# Altium schematic symbol library capacitor_murata_1206$.SchLib: 470 symbols (part 3 of 10)
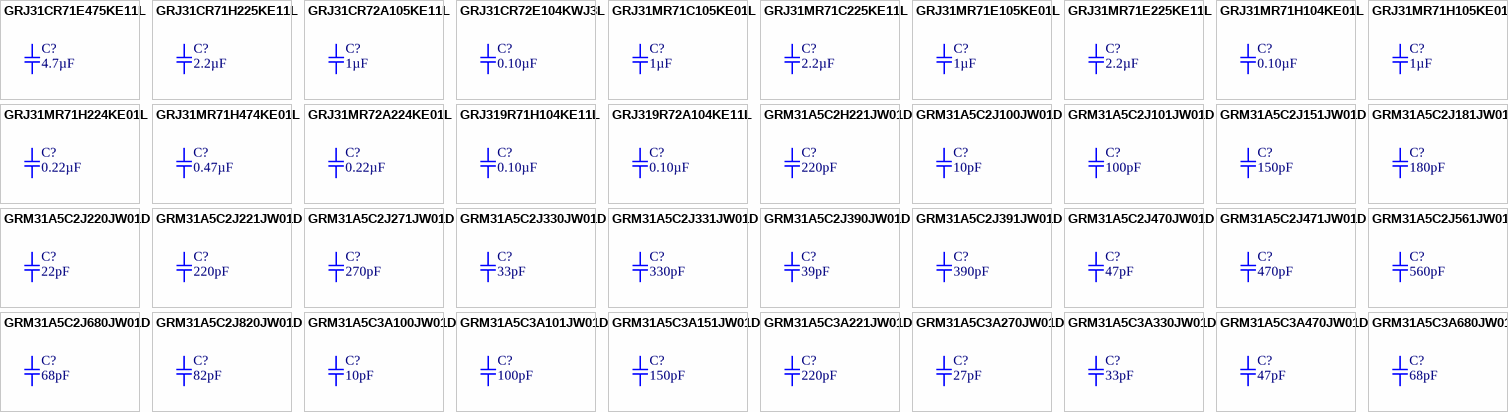
[diagram p13: symbols GRJ31CR71E475KE11L to GRM31A5C3A680JW01D]

## GRM31A5C2J271JW01D
designator C?, comment 270pF
CAP CER 270PF 630V NP0 1206; Part Number: GRM31A5C2J271JW01D; Manufacturer: Murata Electronics North America; Factory Stock: 0; Unit Price (USD): 0.24; Minimum Quantity: 1; Tolerance: ±5%; Temperature Coefficient: C0G, NP0; Datasheets: http://www.murata.com/~/media/webrenewal/support/library/catalog/products/capacitor/mlcc/c02e.pdf; Image: //media.digikey.com/Renders/Murata%20Renders/GR331BD72E473KW01L.jpg; Digi-Key Part Number: 490-11622-1-ND; Quantity Available: 3549; @ qty: 0; Packaging: Cut Tape (CT); Series: GRM; Part Status: Active; Value: 270pF; Voltage: 630V; Operating Temperature: -55°C ~ 125°C; Features: -; Ratings: -; Applications: General Purpose; Mounting Type: Surface Mount, MLCC; Package / Case: 1206 (3216 Metric); Size / Dimension: 0.126" L x 0.063" W (3.20mm x 1.60mm); Height - Seated (Max): -; Thickness (Max): 0.039" (1.00mm); Lead Spacing: -; Lead Style: -
footprint SMD-1206C
pins: 1, 2

## GRM31A5C2J330JW01D
designator C?, comment 33pF
CAP CER 33PF 630V NP0 1206; Part Number: GRM31A5C2J330JW01D; Manufacturer: Murata Electronics North America; Factory Stock: 0; Unit Price (USD): 0.35; Minimum Quantity: 1; Tolerance: ±5%; Temperature Coefficient: C0G, NP0; Datasheets: http://www.murata.com/~/media/webrenewal/support/library/catalog/products/capacitor/mlcc/c02e.pdf; Image: //media.digikey.com/Renders/Murata%20Renders/GR331BD72E473KW01L.jpg; Digi-Key Part Number: 490-11623-1-ND; Quantity Available: 3026; @ qty: 0; Packaging: Cut Tape (CT); Series: GRM; Part Status: Active; Value: 33pF; Voltage: 630V; Operating Temperature: -55°C ~ 125°C; Features: -; Ratings: -; Applications: General Purpose; Mounting Type: Surface Mount, MLCC; Package / Case: 1206 (3216 Metric); Size / Dimension: 0.126" L x 0.063" W (3.20mm x 1.60mm); Height - Seated (Max): -; Thickness (Max): 0.039" (1.00mm); Lead Spacing: -; Lead Style: -
footprint SMD-1206C
pins: 1, 2

## GRM31A5C2J331JW01D
designator C?, comment 330pF
CAP CER 330PF 630V NP0 1206; Part Number: GRM31A5C2J331JW01D; Manufacturer: Murata Electronics North America; Factory Stock: 0; Unit Price (USD): 0.25; Minimum Quantity: 1; Tolerance: ±5%; Temperature Coefficient: C0G, NP0; Datasheets: http://www.murata.com/~/media/webrenewal/support/library/catalog/products/capacitor/mlcc/c02e.pdf; Image: //media.digikey.com/Renders/Murata%20Renders/GR331BD72E473KW01L.jpg; Digi-Key Part Number: 490-5276-1-ND; Quantity Available: 15226; @ qty: 0; Packaging: Cut Tape (CT); Series: GRM; Part Status: Active; Value: 330pF; Voltage: 630V; Operating Temperature: -55°C ~ 125°C; Features: -; Ratings: -; Applications: General Purpose; Mounting Type: Surface Mount, MLCC; Package / Case: 1206 (3216 Metric); Size / Dimension: 0.126" L x 0.063" W (3.20mm x 1.60mm); Height - Seated (Max): -; Thickness (Max): 0.039" (1.00mm); Lead Spacing: -; Lead Style: -
footprint SMD-1206C
pins: 1, 2

## GRM31A5C2J390JW01D
designator C?, comment 39pF
CAP CER 39PF 630V NP0 1206; Part Number: GRM31A5C2J390JW01D; Manufacturer: Murata Electronics North America; Factory Stock: 0; Unit Price (USD): 0.35; Minimum Quantity: 1; Tolerance: ±5%; Temperature Coefficient: C0G, NP0; Datasheets: http://www.murata.com/~/media/webrenewal/support/library/catalog/products/capacitor/mlcc/c02e.pdf; Image: //media.digikey.com/Renders/Murata%20Renders/GR331BD72E473KW01L.jpg; Digi-Key Part Number: 490-11624-1-ND; Quantity Available: 3539; @ qty: 0; Packaging: Cut Tape (CT); Series: GRM; Part Status: Active; Value: 39pF; Voltage: 630V; Operating Temperature: -55°C ~ 125°C; Features: -; Ratings: -; Applications: General Purpose; Mounting Type: Surface Mount, MLCC; Package / Case: 1206 (3216 Metric); Size / Dimension: 0.126" L x 0.063" W (3.20mm x 1.60mm); Height - Seated (Max): -; Thickness (Max): 0.039" (1.00mm); Lead Spacing: -; Lead Style: -
footprint SMD-1206C
pins: 1, 2

## GRM31A5C2J391JW01D
designator C?, comment 390pF
CAP CER 390PF 630V NP0 1206; Part Number: GRM31A5C2J391JW01D; Manufacturer: Murata Electronics North America; Factory Stock: 0; Unit Price (USD): 0.24; Minimum Quantity: 1; Tolerance: ±5%; Temperature Coefficient: C0G, NP0; Datasheets: http://www.murata.com/~/media/webrenewal/support/library/catalog/products/capacitor/mlcc/c02e.pdf; Image: //media.digikey.com/Renders/Murata%20Renders/GR331BD72E473KW01L.jpg; Digi-Key Part Number: 490-11625-1-ND; Quantity Available: 11385; @ qty: 0; Packaging: Cut Tape (CT); Series: GRM; Part Status: Active; Value: 390pF; Voltage: 630V; Operating Temperature: -55°C ~ 125°C; Features: -; Ratings: -; Applications: General Purpose; Mounting Type: Surface Mount, MLCC; Package / Case: 1206 (3216 Metric); Size / Dimension: 0.126" L x 0.063" W (3.20mm x 1.60mm); Height - Seated (Max): -; Thickness (Max): 0.039" (1.00mm); Lead Spacing: -; Lead Style: -
footprint SMD-1206C
pins: 1, 2

## GRM31A5C2J470JW01D
designator C?, comment 47pF
CAP CER 47PF 630V NP0 1206; Part Number: GRM31A5C2J470JW01D; Manufacturer: Murata Electronics North America; Factory Stock: 0; Unit Price (USD): 0.35; Minimum Quantity: 1; Tolerance: ±5%; Temperature Coefficient: C0G, NP0; Datasheets: http://www.murata.com/~/media/webrenewal/support/library/catalog/products/capacitor/mlcc/c02e.pdf; Image: //media.digikey.com/Renders/Murata%20Renders/GR331BD72E473KW01L.jpg; Digi-Key Part Number: 490-12766-1-ND; Quantity Available: 6999; @ qty: 0; Packaging: Cut Tape (CT); Series: GRM; Part Status: Active; Value: 47pF; Voltage: 630V; Operating Temperature: -55°C ~ 125°C; Features: -; Ratings: -; Applications: General Purpose; Mounting Type: Surface Mount, MLCC; Package / Case: 1206 (3216 Metric); Size / Dimension: 0.126" L x 0.063" W (3.20mm x 1.60mm); Height - Seated (Max): -; Thickness (Max): 0.039" (1.00mm); Lead Spacing: -; Lead Style: -
footprint SMD-1206C
pins: 1, 2

## GRM31A5C2J471JW01D
designator C?, comment 470pF
CAP CER 470PF 630V NP0 1206; Part Number: GRM31A5C2J471JW01D; Manufacturer: Murata Electronics North America; Factory Stock: 0; Unit Price (USD): 0.24; Minimum Quantity: 1; Tolerance: ±5%; Temperature Coefficient: C0G, NP0; Datasheets: http://www.murata.com/~/media/webrenewal/support/library/catalog/products/capacitor/mlcc/c02e.pdf; Image: //media.digikey.com/Renders/Murata%20Renders/GR331BD72E473KW01L.jpg; Digi-Key Part Number: 490-5277-1-ND; Quantity Available: 18946; @ qty: 0; Packaging: Cut Tape (CT); Series: GRM; Part Status: Active; Value: 470pF; Voltage: 630V; Operating Temperature: -55°C ~ 125°C; Features: -; Ratings: -; Applications: General Purpose; Mounting Type: Surface Mount, MLCC; Package / Case: 1206 (3216 Metric); Size / Dimension: 0.126" L x 0.063" W (3.20mm x 1.60mm); Height - Seated (Max): -; Thickness (Max): 0.039" (1.00mm); Lead Spacing: -; Lead Style: -
footprint SMD-1206C
pins: 1, 2

## GRM31A5C2J561JW01D
designator C?, comment 560pF
CAP CER 560PF 630V NP0 1206; Part Number: GRM31A5C2J561JW01D; Manufacturer: Murata Electronics North America; Factory Stock: 0; Unit Price (USD): 0.37; Minimum Quantity: 1; Tolerance: ±5%; Temperature Coefficient: C0G, NP0; Datasheets: http://www.murata.com/~/media/webrenewal/support/library/catalog/products/capacitor/mlcc/c02e.pdf; Image: //media.digikey.com/Renders/Murata%20Renders/GR331BD72E473KW01L.jpg; Digi-Key Part Number: 490-13375-1-ND; Quantity Available: 3750; @ qty: 0; Packaging: Cut Tape (CT); Series: GRM; Part Status: Active; Value: 560pF; Voltage: 630V; Operating Temperature: -55°C ~ 125°C; Features: -; Ratings: -; Applications: General Purpose; Mounting Type: Surface Mount, MLCC; Package / Case: 1206 (3216 Metric); Size / Dimension: 0.126" L x 0.063" W (3.20mm x 1.60mm); Height - Seated (Max): -; Thickness (Max): 0.039" (1.00mm); Lead Spacing: -; Lead Style: -
footprint SMD-1206C
pins: 1, 2

## GRM31A5C2J680JW01D
designator C?, comment 68pF
CAP CER 68PF 630V NP0 1206; Part Number: GRM31A5C2J680JW01D; Manufacturer: Murata Electronics North America; Factory Stock: 0; Unit Price (USD): 0.35; Minimum Quantity: 1; Tolerance: ±5%; Temperature Coefficient: C0G, NP0; Datasheets: http://www.murata.com/~/media/webrenewal/support/library/catalog/products/capacitor/mlcc/c02e.pdf; Image: //media.digikey.com/Renders/Murata%20Renders/GR331BD72E473KW01L.jpg; Digi-Key Part Number: 490-11626-1-ND; Quantity Available: 2985; @ qty: 0; Packaging: Cut Tape (CT); Series: GRM; Part Status: Active; Value: 68pF; Voltage: 630V; Operating Temperature: -55°C ~ 125°C; Features: -; Ratings: -; Applications: General Purpose; Mounting Type: Surface Mount, MLCC; Package / Case: 1206 (3216 Metric); Size / Dimension: 0.126" L x 0.063" W (3.20mm x 1.60mm); Height - Seated (Max): -; Thickness (Max): 0.039" (1.00mm); Lead Spacing: -; Lead Style: -
footprint SMD-1206C
pins: 1, 2

## GRM31A5C2J820JW01D
designator C?, comment 82pF
CAP CER 82PF 630V NP0 1206; Part Number: GRM31A5C2J820JW01D; Manufacturer: Murata Electronics North America; Factory Stock: 0; Unit Price (USD): 0.35; Minimum Quantity: 1; Tolerance: ±5%; Temperature Coefficient: C0G, NP0; Datasheets: http://www.murata.com/~/media/webrenewal/support/library/catalog/products/capacitor/mlcc/c02e.pdf; Image: //media.digikey.com/Renders/Murata%20Renders/GR331BD72E473KW01L.jpg; Digi-Key Part Number: 490-11627-1-ND; Quantity Available: 7182; @ qty: 0; Packaging: Cut Tape (CT); Series: GRM; Part Status: Active; Value: 82pF; Voltage: 630V; Operating Temperature: -55°C ~ 125°C; Features: -; Ratings: -; Applications: General Purpose; Mounting Type: Surface Mount, MLCC; Package / Case: 1206 (3216 Metric); Size / Dimension: 0.126" L x 0.063" W (3.20mm x 1.60mm); Height - Seated (Max): -; Thickness (Max): 0.039" (1.00mm); Lead Spacing: -; Lead Style: -
footprint SMD-1206C
pins: 1, 2

## GRM31A5C3A100JW01D
designator C?, comment 10pF
CAP CER 10PF 1KV NP0 1206; Part Number: GRM31A5C3A100JW01D; Manufacturer: Murata Electronics North America; Factory Stock: 0; Unit Price (USD): 0.43; Minimum Quantity: 1; Tolerance: ±5%; Voltage: 1000V (1kV); Temperature Coefficient: C0G, NP0; Datasheets: http://www.murata.com/~/media/webrenewal/support/library/catalog/products/capacitor/mlcc/c02e.pdf; Image: //media.digikey.com/Renders/Murata%20Renders/GR331BD72E473KW01L.jpg; Digi-Key Part Number: 490-12767-1-ND; Quantity Available: 1526; @ qty: 0; Packaging: Cut Tape (CT); Series: GRM; Part Status: Active; Value: 10pF; Operating Temperature: -55°C ~ 125°C; Features: -; Ratings: -; Applications: General Purpose; Mounting Type: Surface Mount, MLCC; Package / Case: 1206 (3216 Metric); Size / Dimension: 0.126" L x 0.063" W (3.20mm x 1.60mm); Height - Seated (Max): -; Thickness (Max): 0.039" (1.00mm); Lead Spacing: -; Lead Style: -
footprint SMD-1206C
pins: 1, 2

## GRM31A5C3A101JW01D
designator C?, comment 100pF
CAP CER 100PF 1KV NP0 1206; Part Number: GRM31A5C3A101JW01D; Manufacturer: Murata Electronics North America; Factory Stock: 0; Unit Price (USD): 0.43; Minimum Quantity: 1; Tolerance: ±5%; Voltage: 1000V (1kV); Temperature Coefficient: C0G, NP0; Datasheets: http://www.murata.com/~/media/webrenewal/support/library/catalog/products/capacitor/mlcc/c02e.pdf; Image: //media.digikey.com/Renders/Murata%20Renders/GR331BD72E473KW01L.jpg; Digi-Key Part Number: 490-12007-1-ND; Quantity Available: 2013; @ qty: 0; Packaging: Cut Tape (CT); Series: GRM; Part Status: Active; Value: 100pF; Operating Temperature: -55°C ~ 125°C; Features: -; Ratings: -; Applications: General Purpose; Mounting Type: Surface Mount, MLCC; Package / Case: 1206 (3216 Metric); Size / Dimension: 0.126" L x 0.063" W (3.20mm x 1.60mm); Height - Seated (Max): -; Thickness (Max): 0.039" (1.00mm); Lead Spacing: -; Lead Style: -
footprint SMD-1206C
pins: 1, 2

## GRM31A5C3A151JW01D
designator C?, comment 150pF
CAP CER 150PF 1KV NP0 1206; Part Number: GRM31A5C3A151JW01D; Manufacturer: Murata Electronics North America; Factory Stock: 0; Unit Price (USD): 0.33; Minimum Quantity: 1; Tolerance: ±5%; Voltage: 1000V (1kV); Temperature Coefficient: C0G, NP0; Datasheets: http://www.murata.com/~/media/webrenewal/support/library/catalog/products/capacitor/mlcc/c02e.pdf; Image: //media.digikey.com/Renders/Murata%20Renders/GR331BD72E473KW01L.jpg; Digi-Key Part Number: 490-13376-1-ND; Quantity Available: 3900; @ qty: 0; Packaging: Cut Tape (CT); Series: GRM; Part Status: Active; Value: 150pF; Operating Temperature: -55°C ~ 125°C; Features: -; Ratings: -; Applications: General Purpose; Mounting Type: Surface Mount, MLCC; Package / Case: 1206 (3216 Metric); Size / Dimension: 0.126" L x 0.063" W (3.20mm x 1.60mm); Height - Seated (Max): -; Thickness (Max): 0.051" (1.30mm); Lead Spacing: -; Lead Style: -
footprint SMD-1206C
pins: 1, 2

## GRM31A5C3A221JW01D
designator C?, comment 220pF
CAP CER 220PF 1KV NP0 1206; Part Number: GRM31A5C3A221JW01D; Manufacturer: Murata Electronics North America; Factory Stock: 0; Unit Price (USD): 0.33; Minimum Quantity: 1; Tolerance: ±5%; Voltage: 1000V (1kV); Temperature Coefficient: C0G, NP0; Datasheets: http://www.murata.com/~/media/webrenewal/support/library/catalog/products/capacitor/mlcc/c02e.pdf; Image: //media.digikey.com/Renders/Murata%20Renders/GR331BD72E473KW01L.jpg; Digi-Key Part Number: 490-13377-1-ND; Quantity Available: 4194; @ qty: 0; Packaging: Cut Tape (CT); Series: GRM; Part Status: Active; Value: 220pF; Operating Temperature: -55°C ~ 125°C; Features: -; Ratings: -; Applications: General Purpose; Mounting Type: Surface Mount, MLCC; Package / Case: 1206 (3216 Metric); Size / Dimension: 0.126" L x 0.063" W (3.20mm x 1.60mm); Height - Seated (Max): -; Thickness (Max): 0.051" (1.30mm); Lead Spacing: -; Lead Style: -
footprint SMD-1206C
pins: 1, 2

## GRM31A5C3A270JW01D
designator C?, comment 27pF
CAP CER 27PF 1KV NP0 1206; Part Number: GRM31A5C3A270JW01D; Manufacturer: Murata Electronics North America; Factory Stock: 0; Unit Price (USD): 0.43; Minimum Quantity: 1; Tolerance: ±5%; Voltage: 1000V (1kV); Temperature Coefficient: C0G, NP0; Datasheets: http://www.murata.com/~/media/webrenewal/support/library/catalog/products/capacitor/mlcc/c02e.pdf; Image: //media.digikey.com/Renders/Murata%20Renders/GR331BD72E473KW01L.jpg; Digi-Key Part Number: 490-11628-1-ND; Quantity Available: 3450; @ qty: 0; Packaging: Cut Tape (CT); Series: GRM; Part Status: Active; Value: 27pF; Operating Temperature: -55°C ~ 125°C; Features: -; Ratings: -; Applications: General Purpose; Mounting Type: Surface Mount, MLCC; Package / Case: 1206 (3216 Metric); Size / Dimension: 0.126" L x 0.063" W (3.20mm x 1.60mm); Height - Seated (Max): -; Thickness (Max): 0.039" (1.00mm); Lead Spacing: -; Lead Style: -
footprint SMD-1206C
pins: 1, 2

## GRM31A5C3A330JW01D
designator C?, comment 33pF
CAP CER 33PF 1KV NP0 1206; Part Number: GRM31A5C3A330JW01D; Manufacturer: Murata Electronics North America; Factory Stock: 0; Unit Price (USD): 0.43; Minimum Quantity: 1; Tolerance: ±5%; Voltage: 1000V (1kV); Temperature Coefficient: C0G, NP0; Datasheets: http://www.murata.com/~/media/webrenewal/support/library/catalog/products/capacitor/mlcc/c02e.pdf; Image: //media.digikey.com/Renders/Murata%20Renders/GR331BD72E473KW01L.jpg; Digi-Key Part Number: 490-11629-1-ND; Quantity Available: 7140; @ qty: 0; Packaging: Cut Tape (CT); Series: GRM; Part Status: Active; Value: 33pF; Operating Temperature: -55°C ~ 125°C; Features: -; Ratings: -; Applications: General Purpose; Mounting Type: Surface Mount, MLCC; Package / Case: 1206 (3216 Metric); Size / Dimension: 0.126" L x 0.063" W (3.20mm x 1.60mm); Height - Seated (Max): -; Thickness (Max): 0.039" (1.00mm); Lead Spacing: -; Lead Style: -
footprint SMD-1206C
pins: 1, 2

## GRM31A5C3A470JW01D
designator C?, comment 47pF
CAP CER 47PF 1KV NP0 1206; Part Number: GRM31A5C3A470JW01D; Manufacturer: Murata Electronics North America; Factory Stock: 0; Unit Price (USD): 0.43; Minimum Quantity: 1; Tolerance: ±5%; Voltage: 1000V (1kV); Temperature Coefficient: C0G, NP0; Datasheets: http://www.murata.com/~/media/webrenewal/support/library/catalog/products/capacitor/mlcc/c02e.pdf; Image: //media.digikey.com/Renders/Murata%20Renders/GR331BD72E473KW01L.jpg; Digi-Key Part Number: 490-11630-1-ND; Quantity Available: 2625; @ qty: 0; Packaging: Cut Tape (CT); Series: GRM; Part Status: Active; Value: 47pF; Operating Temperature: -55°C ~ 125°C; Features: -; Ratings: -; Applications: General Purpose; Mounting Type: Surface Mount, MLCC; Package / Case: 1206 (3216 Metric); Size / Dimension: 0.126" L x 0.063" W (3.20mm x 1.60mm); Height - Seated (Max): -; Thickness (Max): 0.039" (1.00mm); Lead Spacing: -; Lead Style: -
footprint SMD-1206C
pins: 1, 2

## GRM31A5C3A680JW01D
designator C?, comment 68pF
CAP CER 68PF 1KV NP0 1206; Part Number: GRM31A5C3A680JW01D; Manufacturer: Murata Electronics North America; Factory Stock: 0; Unit Price (USD): 0.43; Minimum Quantity: 1; Tolerance: ±5%; Voltage: 1000V (1kV); Temperature Coefficient: C0G, NP0; Datasheets: http://www.murata.com/~/media/webrenewal/support/library/catalog/products/capacitor/mlcc/c02e.pdf; Image: //media.digikey.com/Renders/Murata%20Renders/GR331BD72E473KW01L.jpg; Digi-Key Part Number: 490-12768-1-ND; Quantity Available: 3373; @ qty: 0; Packaging: Cut Tape (CT); Series: GRM; Part Status: Active; Value: 68pF; Operating Temperature: -55°C ~ 125°C; Features: -; Ratings: -; Applications: General Purpose; Mounting Type: Surface Mount, MLCC; Package / Case: 1206 (3216 Metric); Size / Dimension: 0.126" L x 0.063" W (3.20mm x 1.60mm); Height - Seated (Max): -; Thickness (Max): 0.039" (1.00mm); Lead Spacing: -; Lead Style: -
footprint SMD-1206C
pins: 1, 2

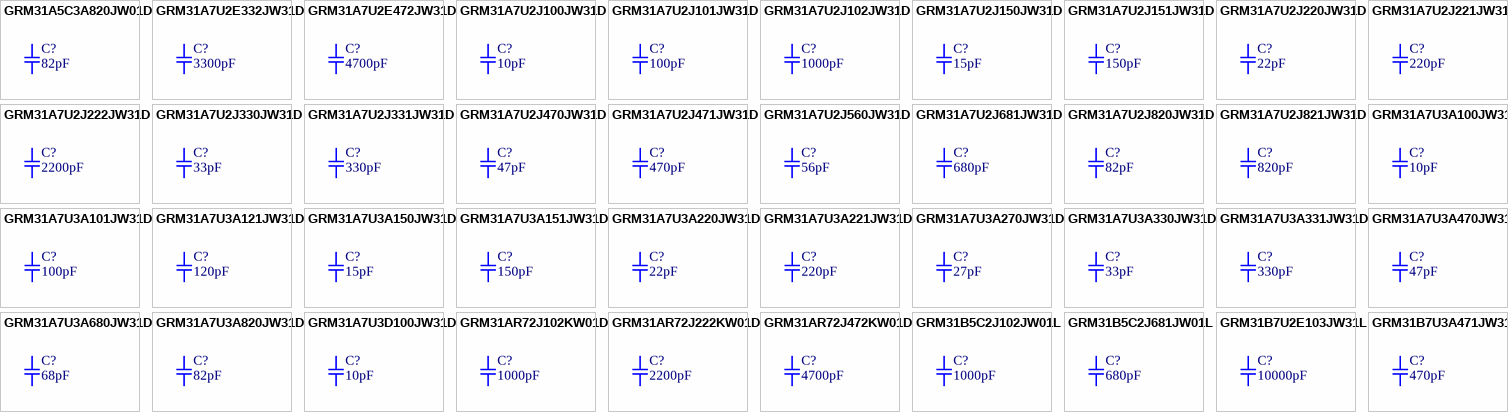
[diagram p3: symbols GRM31A5C3A820JW01D to GRM31B7U3A471JW31L]

## GRM31A5C3A820JW01D
designator C?, comment 82pF
CAP CER 82PF 1KV NP0 1206; Part Number: GRM31A5C3A820JW01D; Manufacturer: Murata Electronics North America; Factory Stock: 0; Unit Price (USD): 0.43; Minimum Quantity: 1; Tolerance: ±5%; Voltage: 1000V (1kV); Temperature Coefficient: C0G, NP0; Datasheets: http://www.murata.com/~/media/webrenewal/support/library/catalog/products/capacitor/mlcc/c02e.pdf; Image: //media.digikey.com/Renders/Murata%20Renders/GR331BD72E473KW01L.jpg; Digi-Key Part Number: 490-11631-1-ND; Quantity Available: 5195; @ qty: 0; Packaging: Cut Tape (CT); Series: GRM; Part Status: Active; Value: 82pF; Operating Temperature: -55°C ~ 125°C; Features: -; Ratings: -; Applications: General Purpose; Mounting Type: Surface Mount, MLCC; Package / Case: 1206 (3216 Metric); Size / Dimension: 0.126" L x 0.063" W (3.20mm x 1.60mm); Height - Seated (Max): -; Thickness (Max): 0.039" (1.00mm); Lead Spacing: -; Lead Style: -
footprint SMD-1206C
pins: 1, 2

## GRM31A7U2E332JW31D
designator C?, comment 3300pF
CAP CER 3300PF 250V U2J 1206; Part Number: GRM31A7U2E332JW31D; Manufacturer: Murata Electronics North America; Factory Stock: 0; Unit Price (USD): 0.35; Minimum Quantity: 1; Tolerance: ±5%; Datasheets: http://www.murata.com/~/media/webrenewal/support/library/catalog/products/capacitor/mlcc/c02e.pdf; Image: //media.digikey.com/Renders/Murata%20Renders/GR331BD72E473KW01L.jpg; Digi-Key Part Number: 490-11632-1-ND; Quantity Available: 2546; @ qty: 0; Packaging: Cut Tape (CT); Series: GRM; Part Status: Active; Value: 3300pF; Voltage: 250V; Temperature Coefficient: U2J; Operating Temperature: -55°C ~ 125°C; Features: -; Ratings: -; Applications: General Purpose; Mounting Type: Surface Mount, MLCC; Package / Case: 1206 (3216 Metric); Size / Dimension: 0.126" L x 0.063" W (3.20mm x 1.60mm); Height - Seated (Max): -; Thickness (Max): 0.039" (1.00mm); Lead Spacing: -; Lead Style: -
footprint SMD-1206C
pins: 1, 2

## GRM31A7U2E472JW31D
designator C?, comment 4700pF
CAP CER 4700PF 250V U2J 1206; Part Number: GRM31A7U2E472JW31D; Manufacturer: Murata Electronics North America; Factory Stock: 0; Unit Price (USD): 0.35; Minimum Quantity: 1; Tolerance: ±5%; Datasheets: http://www.murata.com/~/media/webrenewal/support/library/catalog/products/capacitor/mlcc/c02e.pdf; Image: //media.digikey.com/Renders/Murata%20Renders/GR331BD72E473KW01L.jpg; Digi-Key Part Number: 490-12008-1-ND; Quantity Available: 4400; @ qty: 0; Packaging: Cut Tape (CT); Series: GRM; Part Status: Active; Value: 4700pF; Voltage: 250V; Temperature Coefficient: U2J; Operating Temperature: -55°C ~ 125°C; Features: -; Ratings: -; Applications: General Purpose; Mounting Type: Surface Mount, MLCC; Package / Case: 1206 (3216 Metric); Size / Dimension: 0.126" L x 0.063" W (3.20mm x 1.60mm); Height - Seated (Max): -; Thickness (Max): 0.039" (1.00mm); Lead Spacing: -; Lead Style: -
footprint SMD-1206C
pins: 1, 2

## GRM31A7U2J100JW31D
designator C?, comment 10pF
CAP CER 10PF 630V U2J 1206; Part Number: GRM31A7U2J100JW31D; Manufacturer: Murata Electronics North America; Factory Stock: 0; Unit Price (USD): 0.37; Minimum Quantity: 1; Tolerance: ±5%; Datasheets: http://www.murata.com/~/media/webrenewal/support/library/catalog/products/capacitor/mlcc/c02e.pdf; Image: //media.digikey.com/Renders/Murata%20Renders/GR331BD72E473KW01L.jpg; Digi-Key Part Number: 490-6495-1-ND; Quantity Available: 5199; @ qty: 0; Packaging: Cut Tape (CT); Series: GRM; Part Status: Active; Value: 10pF; Voltage: 630V; Temperature Coefficient: U2J; Operating Temperature: -55°C ~ 125°C; Features: -; Ratings: -; Applications: General Purpose; Mounting Type: Surface Mount, MLCC; Package / Case: 1206 (3216 Metric); Size / Dimension: 0.126" L x 0.063" W (3.20mm x 1.60mm); Height - Seated (Max): -; Thickness (Max): 0.039" (1.00mm); Lead Spacing: -; Lead Style: -
footprint SMD-1206C
pins: 1, 2

## GRM31A7U2J101JW31D
designator C?, comment 100pF
CAP CER 100PF 630V U2J 1206; Part Number: GRM31A7U2J101JW31D; Manufacturer: Murata Electronics North America; Factory Stock: 0; Unit Price (USD): 0.27; Minimum Quantity: 1; Tolerance: ±5%; Datasheets: http://www.murata.com/~/media/webrenewal/support/library/catalog/products/capacitor/mlcc/c02e.pdf; Image: //media.digikey.com/Renders/Murata%20Renders/GR331BD72E473KW01L.jpg; Digi-Key Part Number: 490-4290-1-ND; Quantity Available: 16060; @ qty: 0; Packaging: Cut Tape (CT); Series: GRM; Part Status: Active; Value: 100pF; Voltage: 630V; Temperature Coefficient: U2J; Operating Temperature: -55°C ~ 125°C; Features: -; Ratings: -; Applications: General Purpose; Mounting Type: Surface Mount, MLCC; Package / Case: 1206 (3216 Metric); Size / Dimension: 0.126" L x 0.063" W (3.20mm x 1.60mm); Height - Seated (Max): -; Thickness (Max): 0.039" (1.00mm); Lead Spacing: -; Lead Style: -
footprint SMD-1206C
pins: 1, 2

## GRM31A7U2J102JW31D
designator C?, comment 1000pF
CAP CER 1000PF 630V U2J 1206; Part Number: GRM31A7U2J102JW31D; Manufacturer: Murata Electronics North America; Factory Stock: 0; Unit Price (USD): 0.27; Minimum Quantity: 1; Tolerance: ±5%; Datasheets: http://www.murata.com/~/media/webrenewal/support/library/catalog/products/capacitor/mlcc/c02e.pdf; Image: //media.digikey.com/Renders/Murata%20Renders/GR331BD72E473KW01L.jpg; Digi-Key Part Number: 490-4296-1-ND; Quantity Available: 6686; @ qty: 0; Packaging: Cut Tape (CT); Series: GRM; Part Status: Active; Value: 1000pF; Voltage: 630V; Temperature Coefficient: U2J; Operating Temperature: -55°C ~ 125°C; Features: -; Ratings: -; Applications: General Purpose; Mounting Type: Surface Mount, MLCC; Package / Case: 1206 (3216 Metric); Size / Dimension: 0.126" L x 0.063" W (3.20mm x 1.60mm); Height - Seated (Max): -; Thickness (Max): 0.039" (1.00mm); Lead Spacing: -; Lead Style: -
footprint SMD-1206C
pins: 1, 2

## GRM31A7U2J150JW31D
designator C?, comment 15pF
CAP CER 15PF 630V U2J 1206; Part Number: GRM31A7U2J150JW31D; Manufacturer: Murata Electronics North America; Factory Stock: 0; Unit Price (USD): 0.37; Minimum Quantity: 1; Tolerance: ±5%; Datasheets: http://www.murata.com/~/media/webrenewal/support/library/catalog/products/capacitor/mlcc/c02e.pdf; Image: //media.digikey.com/Renders/Murata%20Renders/GR331BD72E473KW01L.jpg; Digi-Key Part Number: 490-12769-1-ND; Quantity Available: 1947; @ qty: 0; Packaging: Cut Tape (CT); Series: GRM; Part Status: Active; Value: 15pF; Voltage: 630V; Temperature Coefficient: U2J; Operating Temperature: -55°C ~ 125°C; Features: -; Ratings: -; Applications: General Purpose; Mounting Type: Surface Mount, MLCC; Package / Case: 1206 (3216 Metric); Size / Dimension: 0.126" L x 0.063" W (3.20mm x 1.60mm); Height - Seated (Max): -; Thickness (Max): 0.039" (1.00mm); Lead Spacing: -; Lead Style: -
footprint SMD-1206C
pins: 1, 2

## GRM31A7U2J151JW31D
designator C?, comment 150pF
CAP CER 150PF 630V U2J 1206; Part Number: GRM31A7U2J151JW31D; Manufacturer: Murata Electronics North America; Factory Stock: 0; Unit Price (USD): 0.38; Minimum Quantity: 1; Tolerance: ±5%; Datasheets: http://www.murata.com/~/media/webrenewal/support/library/catalog/products/capacitor/mlcc/c02e.pdf; Image: //media.digikey.com/Renders/Murata%20Renders/GR331BD72E473KW01L.jpg; Digi-Key Part Number: 490-4291-1-ND; Quantity Available: 9451; @ qty: 0; Packaging: Cut Tape (CT); Series: GRM; Part Status: Active; Value: 150pF; Voltage: 630V; Temperature Coefficient: U2J; Operating Temperature: -55°C ~ 125°C; Features: -; Ratings: -; Applications: General Purpose; Mounting Type: Surface Mount, MLCC; Package / Case: 1206 (3216 Metric); Size / Dimension: 0.126" L x 0.063" W (3.20mm x 1.60mm); Height - Seated (Max): -; Thickness (Max): 0.039" (1.00mm); Lead Spacing: -; Lead Style: -
footprint SMD-1206C
pins: 1, 2

## GRM31A7U2J220JW31D
designator C?, comment 22pF
CAP CER 22PF 630V U2J 1206; Part Number: GRM31A7U2J220JW31D; Manufacturer: Murata Electronics North America; Factory Stock: 0; Unit Price (USD): 0.37; Minimum Quantity: 1; Tolerance: ±5%; Datasheets: http://www.murata.com/~/media/webrenewal/support/library/catalog/products/capacitor/mlcc/c02e.pdf; Image: //media.digikey.com/Renders/Murata%20Renders/GR331BD72E473KW01L.jpg; Digi-Key Part Number: 490-6496-1-ND; Quantity Available: 11399; @ qty: 0; Packaging: Cut Tape (CT); Series: GRM; Part Status: Active; Value: 22pF; Voltage: 630V; Temperature Coefficient: U2J; Operating Temperature: -55°C ~ 125°C; Features: -; Ratings: -; Applications: General Purpose; Mounting Type: Surface Mount, MLCC; Package / Case: 1206 (3216 Metric); Size / Dimension: 0.126" L x 0.063" W (3.20mm x 1.60mm); Height - Seated (Max): -; Thickness (Max): 0.039" (1.00mm); Lead Spacing: -; Lead Style: -
footprint SMD-1206C
pins: 1, 2

## GRM31A7U2J221JW31D
designator C?, comment 220pF
CAP CER 220PF 630V U2J 1206; Part Number: GRM31A7U2J221JW31D; Manufacturer: Murata Electronics North America; Factory Stock: 0; Unit Price (USD): 0.34; Minimum Quantity: 1; Tolerance: ±5%; Datasheets: http://www.murata.com/~/media/webrenewal/support/library/catalog/products/capacitor/mlcc/c02e.pdf; Image: //media.digikey.com/Renders/Murata%20Renders/GR331BD72E473KW01L.jpg; Digi-Key Part Number: 490-4292-1-ND; Quantity Available: 15375; @ qty: 0; Packaging: Cut Tape (CT); Series: GRM; Part Status: Active; Value: 220pF; Voltage: 630V; Temperature Coefficient: U2J; Operating Temperature: -55°C ~ 125°C; Features: -; Ratings: -; Applications: General Purpose; Mounting Type: Surface Mount, MLCC; Package / Case: 1206 (3216 Metric); Size / Dimension: 0.126" L x 0.063" W (3.20mm x 1.60mm); Height - Seated (Max): -; Thickness (Max): 0.039" (1.00mm); Lead Spacing: -; Lead Style: -
footprint SMD-1206C
pins: 1, 2

## GRM31A7U2J222JW31D
designator C?, comment 2200pF
CAP CER 2200PF 630V U2J 1206; Part Number: GRM31A7U2J222JW31D; Manufacturer: Murata Electronics North America; Factory Stock: 0; Unit Price (USD): 0.34; Minimum Quantity: 1; Tolerance: ±5%; Datasheets: http://www.murata.com/~/media/webrenewal/support/library/catalog/products/capacitor/mlcc/c02e.pdf; Image: //media.digikey.com/Renders/Murata%20Renders/GR331BD72E473KW01L.jpg; Digi-Key Part Number: 490-12009-1-ND; Quantity Available: 2553; @ qty: 0; Packaging: Cut Tape (CT); Series: GRM; Part Status: Active; Value: 2200pF; Voltage: 630V; Temperature Coefficient: U2J; Operating Temperature: -55°C ~ 125°C; Features: -; Ratings: -; Applications: General Purpose; Mounting Type: Surface Mount, MLCC; Package / Case: 1206 (3216 Metric); Size / Dimension: 0.126" L x 0.063" W (3.20mm x 1.60mm); Height - Seated (Max): -; Thickness (Max): 0.039" (1.00mm); Lead Spacing: -; Lead Style: -
footprint SMD-1206C
pins: 1, 2

## GRM31A7U2J330JW31D
designator C?, comment 33pF
CAP CER 33PF 630V U2J 1206; Part Number: GRM31A7U2J330JW31D; Manufacturer: Murata Electronics North America; Factory Stock: 0; Unit Price (USD): 0.32; Minimum Quantity: 1; Tolerance: ±5%; Datasheets: http://www.murata.com/~/media/webrenewal/support/library/catalog/products/capacitor/mlcc/c02e.pdf; Image: //media.digikey.com/Renders/Murata%20Renders/GR331BD72E473KW01L.jpg; Digi-Key Part Number: 490-8329-1-ND; Quantity Available: 5814; @ qty: 0; Packaging: Cut Tape (CT); Series: GRM; Part Status: Active; Value: 33pF; Voltage: 630V; Temperature Coefficient: U2J; Operating Temperature: -55°C ~ 125°C; Features: -; Ratings: -; Applications: General Purpose; Mounting Type: Surface Mount, MLCC; Package / Case: 1206 (3216 Metric); Size / Dimension: 0.126" L x 0.063" W (3.20mm x 1.60mm); Height - Seated (Max): -; Thickness (Max): 0.039" (1.00mm); Lead Spacing: -; Lead Style: -
footprint SMD-1206C
pins: 1, 2

## GRM31A7U2J331JW31D
designator C?, comment 330pF
CAP CER 330PF 630V U2J 1206; Part Number: GRM31A7U2J331JW31D; Manufacturer: Murata Electronics North America; Factory Stock: 0; Unit Price (USD): 0.38; Minimum Quantity: 1; Tolerance: ±5%; Datasheets: http://www.murata.com/~/media/webrenewal/support/library/catalog/products/capacitor/mlcc/c02e.pdf; Image: //media.digikey.com/Renders/Murata%20Renders/GR331BD72E473KW01L.jpg; Digi-Key Part Number: 490-4293-1-ND; Quantity Available: 2488; @ qty: 0; Packaging: Cut Tape (CT); Series: GRM; Part Status: Active; Value: 330pF; Voltage: 630V; Temperature Coefficient: U2J; Operating Temperature: -55°C ~ 125°C; Features: -; Ratings: -; Applications: General Purpose; Mounting Type: Surface Mount, MLCC; Package / Case: 1206 (3216 Metric); Size / Dimension: 0.126" L x 0.063" W (3.20mm x 1.60mm); Height - Seated (Max): -; Thickness (Max): 0.039" (1.00mm); Lead Spacing: -; Lead Style: -
footprint SMD-1206C
pins: 1, 2

## GRM31A7U2J470JW31D
designator C?, comment 47pF
CAP CER 47PF 630V U2J 1206; Part Number: GRM31A7U2J470JW31D; Manufacturer: Murata Electronics North America; Factory Stock: 0; Unit Price (USD): 0.37; Minimum Quantity: 1; Tolerance: ±5%; Datasheets: http://www.murata.com/~/media/webrenewal/support/library/catalog/products/capacitor/mlcc/c02e.pdf; Image: //media.digikey.com/Renders/Murata%20Renders/GR331BD72E473KW01L.jpg; Digi-Key Part Number: 490-6497-1-ND; Quantity Available: 7905; @ qty: 0; Packaging: Cut Tape (CT); Series: GRM; Part Status: Active; Value: 47pF; Voltage: 630V; Temperature Coefficient: U2J; Operating Temperature: -55°C ~ 125°C; Features: -; Ratings: -; Applications: General Purpose; Mounting Type: Surface Mount, MLCC; Package / Case: 1206 (3216 Metric); Size / Dimension: 0.126" L x 0.063" W (3.20mm x 1.60mm); Height - Seated (Max): -; Thickness (Max): 0.039" (1.00mm); Lead Spacing: -; Lead Style: -
footprint SMD-1206C
pins: 1, 2

## GRM31A7U2J471JW31D
designator C?, comment 470pF
CAP CER 470PF 630V U2J 1206; Part Number: GRM31A7U2J471JW31D; Manufacturer: Murata Electronics North America; Factory Stock: 0; Unit Price (USD): 0.38; Minimum Quantity: 1; Tolerance: ±5%; Datasheets: http://www.murata.com/~/media/webrenewal/support/library/catalog/products/capacitor/mlcc/c02e.pdf; Image: //media.digikey.com/Renders/Murata%20Renders/GR331BD72E473KW01L.jpg; Digi-Key Part Number: 490-4294-1-ND; Quantity Available: 3988; @ qty: 0; Packaging: Cut Tape (CT); Series: GRM; Part Status: Active; Value: 470pF; Voltage: 630V; Temperature Coefficient: U2J; Operating Temperature: -55°C ~ 125°C; Features: -; Ratings: -; Applications: General Purpose; Mounting Type: Surface Mount, MLCC; Package / Case: 1206 (3216 Metric); Size / Dimension: 0.126" L x 0.063" W (3.20mm x 1.60mm); Height - Seated (Max): -; Thickness (Max): 0.039" (1.00mm); Lead Spacing: -; Lead Style: -
footprint SMD-1206C
pins: 1, 2

## GRM31A7U2J560JW31D
designator C?, comment 56pF
CAP CER 56PF 630V U2J 1206; Part Number: GRM31A7U2J560JW31D; Manufacturer: Murata Electronics North America; Factory Stock: 0; Unit Price (USD): 0.37; Minimum Quantity: 1; Tolerance: ±5%; Datasheets: http://www.murata.com/~/media/webrenewal/support/library/catalog/products/capacitor/mlcc/c02e.pdf; Image: //media.digikey.com/Renders/Murata%20Renders/GR331BD72E473KW01L.jpg; Digi-Key Part Number: 490-11633-1-ND; Quantity Available: 3386; @ qty: 0; Packaging: Cut Tape (CT); Series: GRM; Part Status: Active; Value: 56pF; Voltage: 630V; Temperature Coefficient: U2J; Operating Temperature: -55°C ~ 125°C; Features: -; Ratings: -; Applications: General Purpose; Mounting Type: Surface Mount, MLCC; Package / Case: 1206 (3216 Metric); Size / Dimension: 0.126" L x 0.063" W (3.20mm x 1.60mm); Height - Seated (Max): -; Thickness (Max): 0.039" (1.00mm); Lead Spacing: -; Lead Style: -
footprint SMD-1206C
pins: 1, 2

## GRM31A7U2J681JW31D
designator C?, comment 680pF
CAP CER 680PF 630V U2J 1206; Part Number: GRM31A7U2J681JW31D; Manufacturer: Murata Electronics North America; Factory Stock: 0; Unit Price (USD): 0.33; Minimum Quantity: 1; Tolerance: ±5%; Datasheets: http://www.murata.com/~/media/webrenewal/support/library/catalog/products/capacitor/mlcc/c02e.pdf; Image: //media.digikey.com/Renders/Murata%20Renders/GR331BD72E473KW01L.jpg; Digi-Key Part Number: 490-4295-1-ND; Quantity Available: 7982; @ qty: 0; Packaging: Cut Tape (CT); Series: GRM; Part Status: Active; Value: 680pF; Voltage: 630V; Temperature Coefficient: U2J; Operating Temperature: -55°C ~ 125°C; Features: -; Ratings: -; Applications: General Purpose; Mounting Type: Surface Mount, MLCC; Package / Case: 1206 (3216 Metric); Size / Dimension: 0.126" L x 0.063" W (3.20mm x 1.60mm); Height - Seated (Max): -; Thickness (Max): 0.039" (1.00mm); Lead Spacing: -; Lead Style: -
footprint SMD-1206C
pins: 1, 2

## GRM31A7U2J820JW31D
designator C?, comment 82pF
CAP CER 82PF 630V U2J 1206; Part Number: GRM31A7U2J820JW31D; Manufacturer: Murata Electronics North America; Factory Stock: 0; Unit Price (USD): 0.37; Minimum Quantity: 1; Tolerance: ±5%; Datasheets: http://www.murata.com/~/media/webrenewal/support/library/catalog/products/capacitor/mlcc/c02e.pdf; Image: //media.digikey.com/Renders/Murata%20Renders/GR331BD72E473KW01L.jpg; Digi-Key Part Number: 490-6498-1-ND; Quantity Available: 10401; @ qty: 0; Packaging: Cut Tape (CT); Series: GRM; Part Status: Active; Value: 82pF; Voltage: 630V; Temperature Coefficient: U2J; Operating Temperature: -55°C ~ 125°C; Features: -; Ratings: -; Applications: General Purpose; Mounting Type: Surface Mount, MLCC; Package / Case: 1206 (3216 Metric); Size / Dimension: 0.126" L x 0.063" W (3.20mm x 1.60mm); Height - Seated (Max): -; Thickness (Max): 0.039" (1.00mm); Lead Spacing: -; Lead Style: -
footprint SMD-1206C
pins: 1, 2

## GRM31A7U2J821JW31D
designator C?, comment 820pF
CAP CER 820PF 630V U2J 1206; Part Number: GRM31A7U2J821JW31D; Manufacturer: Murata Electronics North America; Factory Stock: 0; Unit Price (USD): 0.33; Minimum Quantity: 1; Tolerance: ±5%; Datasheets: http://www.murata.com/~/media/webrenewal/support/library/catalog/products/capacitor/mlcc/c02e.pdf; Image: //media.digikey.com/Renders/Murata%20Renders/GR331BD72E473KW01L.jpg; Digi-Key Part Number: 490-12770-1-ND; Quantity Available: 3740; @ qty: 0; Packaging: Cut Tape (CT); Series: GRM; Part Status: Active; Value: 820pF; Voltage: 630V; Temperature Coefficient: U2J; Operating Temperature: -55°C ~ 125°C; Features: -; Ratings: -; Applications: General Purpose; Mounting Type: Surface Mount, MLCC; Package / Case: 1206 (3216 Metric); Size / Dimension: 0.126" L x 0.063" W (3.20mm x 1.60mm); Height - Seated (Max): -; Thickness (Max): 0.039" (1.00mm); Lead Spacing: -; Lead Style: -
footprint SMD-1206C
pins: 1, 2

## GRM31A7U3A100JW31D
designator C?, comment 10pF
CAP CER 10PF 1KV U2J 1206; Part Number: GRM31A7U3A100JW31D; Manufacturer: Murata Electronics North America; Factory Stock: 0; Unit Price (USD): 0.39; Minimum Quantity: 1; Tolerance: ±5%; Voltage: 1000V (1kV); Datasheets: http://www.murata.com/~/media/webrenewal/support/library/catalog/products/capacitor/mlcc/c02e.pdf; Image: //media.digikey.com/Renders/Murata%20Renders/GR331BD72E473KW01L.jpg; Digi-Key Part Number: 490-8330-1-ND; Quantity Available: 5135; @ qty: 0; Packaging: Cut Tape (CT); Series: GRM; Part Status: Active; Value: 10pF; Temperature Coefficient: U2J; Operating Temperature: -55°C ~ 125°C; Features: -; Ratings: -; Applications: General Purpose; Mounting Type: Surface Mount, MLCC; Package / Case: 1206 (3216 Metric); Size / Dimension: 0.126" L x 0.063" W (3.20mm x 1.60mm); Height - Seated (Max): -; Thickness (Max): 0.039" (1.00mm); Lead Spacing: -; Lead Style: -
footprint SMD-1206C
pins: 1, 2

## GRM31A7U3A101JW31D
designator C?, comment 100pF
CAP CER 100PF 1KV U2J 1206; Part Number: GRM31A7U3A101JW31D; Manufacturer: Murata Electronics North America; Factory Stock: 0; Unit Price (USD): 0.39; Minimum Quantity: 1; Tolerance: ±5%; Voltage: 1000V (1kV); Datasheets: http://www.murata.com/~/media/webrenewal/support/library/catalog/products/capacitor/mlcc/c02e.pdf; Image: //media.digikey.com/Renders/Murata%20Renders/GR331BD72E473KW01L.jpg; Digi-Key Part Number: 490-4301-1-ND; Quantity Available: 151933; @ qty: 0; Packaging: Cut Tape (CT); Series: GRM; Part Status: Active; Value: 100pF; Temperature Coefficient: U2J; Operating Temperature: -55°C ~ 125°C; Features: -; Ratings: -; Applications: General Purpose; Mounting Type: Surface Mount, MLCC; Package / Case: 1206 (3216 Metric); Size / Dimension: 0.126" L x 0.063" W (3.20mm x 1.60mm); Height - Seated (Max): -; Thickness (Max): 0.039" (1.00mm); Lead Spacing: -; Lead Style: -
footprint SMD-1206C
pins: 1, 2

## GRM31A7U3A121JW31D
designator C?, comment 120pF
CAP CER 120PF 1KV U2J 1206; Part Number: GRM31A7U3A121JW31D; Manufacturer: Murata Electronics North America; Factory Stock: 0; Unit Price (USD): 0.42; Minimum Quantity: 1; Tolerance: ±5%; Voltage: 1000V (1kV); Datasheets: http://www.murata.com/~/media/webrenewal/support/library/catalog/products/capacitor/mlcc/c02e.pdf; Image: //media.digikey.com/Renders/Murata%20Renders/GR331BD72E473KW01L.jpg; Digi-Key Part Number: 490-8331-1-ND; Quantity Available: 4711; @ qty: 0; Packaging: Cut Tape (CT); Series: GRM; Part Status: Active; Value: 120pF; Temperature Coefficient: U2J; Operating Temperature: -55°C ~ 125°C; Features: -; Ratings: -; Applications: General Purpose; Mounting Type: Surface Mount, MLCC; Package / Case: 1206 (3216 Metric); Size / Dimension: 0.126" L x 0.063" W (3.20mm x 1.60mm); Height - Seated (Max): -; Thickness (Max): 0.039" (1.00mm); Lead Spacing: -; Lead Style: -
footprint SMD-1206C
pins: 1, 2

## GRM31A7U3A150JW31D
designator C?, comment 15pF
CAP CER 15PF 1KV U2J 1206; Part Number: GRM31A7U3A150JW31D; Manufacturer: Murata Electronics North America; Factory Stock: 0; Unit Price (USD): 0.39; Minimum Quantity: 1; Tolerance: ±5%; Voltage: 1000V (1kV); Datasheets: http://www.murata.com/~/media/webrenewal/support/library/catalog/products/capacitor/mlcc/c02e.pdf; Image: //media.digikey.com/Renders/Murata%20Renders/GR331BD72E473KW01L.jpg; Digi-Key Part Number: 490-6499-1-ND; Quantity Available: 8496; @ qty: 0; Packaging: Cut Tape (CT); Series: GRM; Part Status: Active; Value: 15pF; Temperature Coefficient: U2J; Operating Temperature: -55°C ~ 125°C; Features: -; Ratings: -; Applications: General Purpose; Mounting Type: Surface Mount, MLCC; Package / Case: 1206 (3216 Metric); Size / Dimension: 0.126" L x 0.063" W (3.20mm x 1.60mm); Height - Seated (Max): -; Thickness (Max): 0.039" (1.00mm); Lead Spacing: -; Lead Style: -
footprint SMD-1206C
pins: 1, 2

## GRM31A7U3A151JW31D
designator C?, comment 150pF
CAP CER 150PF 1KV U2J 1206; Part Number: GRM31A7U3A151JW31D; Manufacturer: Murata Electronics North America; Factory Stock: 0; Unit Price (USD): 0.42; Minimum Quantity: 1; Tolerance: ±5%; Voltage: 1000V (1kV); Datasheets: http://www.murata.com/~/media/webrenewal/support/library/catalog/products/capacitor/mlcc/c02e.pdf; Image: //media.digikey.com/Renders/Murata%20Renders/GR331BD72E473KW01L.jpg; Digi-Key Part Number: 490-4302-1-ND; Quantity Available: 12055; @ qty: 0; Packaging: Cut Tape (CT); Series: GRM; Part Status: Active; Value: 150pF; Temperature Coefficient: U2J; Operating Temperature: -55°C ~ 125°C; Features: -; Ratings: -; Applications: General Purpose; Mounting Type: Surface Mount, MLCC; Package / Case: 1206 (3216 Metric); Size / Dimension: 0.126" L x 0.063" W (3.20mm x 1.60mm); Height - Seated (Max): -; Thickness (Max): 0.039" (1.00mm); Lead Spacing: -; Lead Style: -
footprint SMD-1206C
pins: 1, 2

## GRM31A7U3A220JW31D
designator C?, comment 22pF
CAP CER 22PF 1KV U2J 1206; Part Number: GRM31A7U3A220JW31D; Manufacturer: Murata Electronics North America; Factory Stock: 0; Unit Price (USD): 0.39; Minimum Quantity: 1; Tolerance: ±5%; Voltage: 1000V (1kV); Datasheets: http://www.murata.com/~/media/webrenewal/support/library/catalog/products/capacitor/mlcc/c02e.pdf; Image: //media.digikey.com/Renders/Murata%20Renders/GR331BD72E473KW01L.jpg; Digi-Key Part Number: 490-11634-1-ND; Quantity Available: 3530; @ qty: 0; Packaging: Cut Tape (CT); Series: GRM; Part Status: Active; Value: 22pF; Temperature Coefficient: U2J; Operating Temperature: -55°C ~ 125°C; Features: -; Ratings: -; Applications: General Purpose; Mounting Type: Surface Mount, MLCC; Package / Case: 1206 (3216 Metric); Size / Dimension: 0.126" L x 0.063" W (3.20mm x 1.60mm); Height - Seated (Max): -; Thickness (Max): 0.039" (1.00mm); Lead Spacing: -; Lead Style: -
footprint SMD-1206C
pins: 1, 2

## GRM31A7U3A221JW31D
designator C?, comment 220pF
CAP CER 220PF 1KV U2J 1206; Part Number: GRM31A7U3A221JW31D; Manufacturer: Murata Electronics North America; Factory Stock: 0; Unit Price (USD): 0.42; Minimum Quantity: 1; Tolerance: ±5%; Voltage: 1000V (1kV); Datasheets: http://www.murata.com/~/media/webrenewal/support/library/catalog/products/capacitor/mlcc/c02e.pdf; Image: //media.digikey.com/Renders/Murata%20Renders/GR331BD72E473KW01L.jpg; Digi-Key Part Number: 490-4303-1-ND; Quantity Available: 7573; @ qty: 0; Packaging: Cut Tape (CT); Series: GRM; Part Status: Active; Value: 220pF; Temperature Coefficient: U2J; Operating Temperature: -55°C ~ 125°C; Features: -; Ratings: -; Applications: General Purpose; Mounting Type: Surface Mount, MLCC; Package / Case: 1206 (3216 Metric); Size / Dimension: 0.126" L x 0.063" W (3.20mm x 1.60mm); Height - Seated (Max): -; Thickness (Max): 0.039" (1.00mm); Lead Spacing: -; Lead Style: -
footprint SMD-1206C
pins: 1, 2

## GRM31A7U3A270JW31D
designator C?, comment 27pF
CAP CER 27PF 1KV U2J 1206; Part Number: GRM31A7U3A270JW31D; Manufacturer: Murata Electronics North America; Factory Stock: 0; Unit Price (USD): 0.39; Minimum Quantity: 1; Tolerance: ±5%; Voltage: 1000V (1kV); Datasheets: http://www.murata.com/~/media/webrenewal/support/library/catalog/products/capacitor/mlcc/c02e.pdf; Image: //media.digikey.com/Renders/Murata%20Renders/GR331BD72E473KW01L.jpg; Digi-Key Part Number: 490-6500-1-ND; Quantity Available: 6499; @ qty: 0; Packaging: Cut Tape (CT); Series: GRM; Part Status: Active; Value: 27pF; Temperature Coefficient: U2J; Operating Temperature: -55°C ~ 125°C; Features: -; Ratings: -; Applications: General Purpose; Mounting Type: Surface Mount, MLCC; Package / Case: 1206 (3216 Metric); Size / Dimension: 0.126" L x 0.063" W (3.20mm x 1.60mm); Height - Seated (Max): -; Thickness (Max): 0.039" (1.00mm); Lead Spacing: -; Lead Style: -
footprint SMD-1206C
pins: 1, 2

## GRM31A7U3A330JW31D
designator C?, comment 33pF
CAP CER 33PF 1KV U2J 1206; Part Number: GRM31A7U3A330JW31D; Manufacturer: Murata Electronics North America; Factory Stock: 0; Unit Price (USD): 0.39; Minimum Quantity: 1; Tolerance: ±5%; Voltage: 1000V (1kV); Datasheets: http://www.murata.com/~/media/webrenewal/support/library/catalog/products/capacitor/mlcc/c02e.pdf; Image: //media.digikey.com/Renders/Murata%20Renders/GR331BD72E473KW01L.jpg; Digi-Key Part Number: 490-11635-1-ND; Quantity Available: 7485; @ qty: 0; Packaging: Cut Tape (CT); Series: GRM; Part Status: Active; Value: 33pF; Temperature Coefficient: U2J; Operating Temperature: -55°C ~ 125°C; Features: -; Ratings: -; Applications: General Purpose; Mounting Type: Surface Mount, MLCC; Package / Case: 1206 (3216 Metric); Size / Dimension: 0.126" L x 0.063" W (3.20mm x 1.60mm); Height - Seated (Max): -; Thickness (Max): 0.039" (1.00mm); Lead Spacing: -; Lead Style: -
footprint SMD-1206C
pins: 1, 2

## GRM31A7U3A331JW31D
designator C?, comment 330pF
CAP CER 330PF 1KV U2J 1206; Part Number: GRM31A7U3A331JW31D; Manufacturer: Murata Electronics North America; Factory Stock: 0; Unit Price (USD): 0.42; Minimum Quantity: 1; Tolerance: ±5%; Voltage: 1000V (1kV); Datasheets: http://www.murata.com/~/media/webrenewal/support/library/catalog/products/capacitor/mlcc/c02e.pdf; Image: //media.digikey.com/Renders/Murata%20Renders/GR331BD72E473KW01L.jpg; Digi-Key Part Number: 490-4304-1-ND; Quantity Available: 296786; @ qty: 0; Packaging: Cut Tape (CT); Series: GRM; Part Status: Active; Value: 330pF; Temperature Coefficient: U2J; Operating Temperature: -55°C ~ 125°C; Features: -; Ratings: -; Applications: General Purpose; Mounting Type: Surface Mount, MLCC; Package / Case: 1206 (3216 Metric); Size / Dimension: 0.126" L x 0.063" W (3.20mm x 1.60mm); Height - Seated (Max): -; Thickness (Max): 0.039" (1.00mm); Lead Spacing: -; Lead Style: -
footprint SMD-1206C
pins: 1, 2

## GRM31A7U3A470JW31D
designator C?, comment 47pF
CAP CER 47PF 1KV U2J 1206; Part Number: GRM31A7U3A470JW31D; Manufacturer: Murata Electronics North America; Factory Stock: 0; Unit Price (USD): 0.39; Minimum Quantity: 1; Tolerance: ±5%; Voltage: 1000V (1kV); Datasheets: http://www.murata.com/~/media/webrenewal/support/library/catalog/products/capacitor/mlcc/c02e.pdf; Image: //media.digikey.com/Renders/Murata%20Renders/GR331BD72E473KW01L.jpg; Digi-Key Part Number: 490-4299-1-ND; Quantity Available: 12682; @ qty: 0; Packaging: Cut Tape (CT); Series: GRM; Part Status: Active; Value: 47pF; Temperature Coefficient: U2J; Operating Temperature: -55°C ~ 125°C; Features: -; Ratings: -; Applications: General Purpose; Mounting Type: Surface Mount, MLCC; Package / Case: 1206 (3216 Metric); Size / Dimension: 0.126" L x 0.063" W (3.20mm x 1.60mm); Height - Seated (Max): -; Thickness (Max): 0.039" (1.00mm); Lead Spacing: -; Lead Style: -
footprint SMD-1206C
pins: 1, 2

## GRM31A7U3A680JW31D
designator C?, comment 68pF
CAP CER 68PF 1KV U2J 1206; Part Number: GRM31A7U3A680JW31D; Manufacturer: Murata Electronics North America; Factory Stock: 0; Unit Price (USD): 0.39; Minimum Quantity: 1; Tolerance: ±5%; Voltage: 1000V (1kV); Datasheets: http://www.murata.com/~/media/webrenewal/support/library/catalog/products/capacitor/mlcc/c02e.pdf; Image: //media.digikey.com/Renders/Murata%20Renders/GR331BD72E473KW01L.jpg; Digi-Key Part Number: 490-4300-1-ND; Quantity Available: 16490; @ qty: 0; Packaging: Cut Tape (CT); Series: GRM; Part Status: Active; Value: 68pF; Temperature Coefficient: U2J; Operating Temperature: -55°C ~ 125°C; Features: -; Ratings: -; Applications: General Purpose; Mounting Type: Surface Mount, MLCC; Package / Case: 1206 (3216 Metric); Size / Dimension: 0.126" L x 0.063" W (3.20mm x 1.60mm); Height - Seated (Max): -; Thickness (Max): 0.039" (1.00mm); Lead Spacing: -; Lead Style: -
footprint SMD-1206C
pins: 1, 2

## GRM31A7U3A820JW31D
designator C?, comment 82pF
CAP CER 82PF 1KV U2J 1206; Part Number: GRM31A7U3A820JW31D; Manufacturer: Murata Electronics North America; Factory Stock: 0; Unit Price (USD): 0.39; Minimum Quantity: 1; Tolerance: ±5%; Voltage: 1000V (1kV); Datasheets: http://www.murata.com/~/media/webrenewal/support/library/catalog/products/capacitor/mlcc/c02e.pdf; Image: //media.digikey.com/Renders/Murata%20Renders/GR331BD72E473KW01L.jpg; Digi-Key Part Number: 490-8332-1-ND; Quantity Available: 2178; @ qty: 0; Packaging: Cut Tape (CT); Series: GRM; Part Status: Active; Value: 82pF; Temperature Coefficient: U2J; Operating Temperature: -55°C ~ 125°C; Features: -; Ratings: -; Applications: General Purpose; Mounting Type: Surface Mount, MLCC; Package / Case: 1206 (3216 Metric); Size / Dimension: 0.126" L x 0.063" W (3.20mm x 1.60mm); Height - Seated (Max): -; Thickness (Max): 0.039" (1.00mm); Lead Spacing: -; Lead Style: -
footprint SMD-1206C
pins: 1, 2

## GRM31A7U3D100JW31D
designator C?, comment 10pF
CAP CER 10PF 2KV U2J 1206; Part Number: GRM31A7U3D100JW31D; Manufacturer: Murata Electronics North America; Factory Stock: 0; Unit Price (USD): 0.54; Minimum Quantity: 1; Tolerance: ±5%; Voltage: 2000V (2kV); Datasheets: http://www.murata.com/~/media/webrenewal/support/library/catalog/products/capacitor/mlcc/c02e.pdf; Image: //media.digikey.com/Renders/Murata%20Renders/GR331BD72E473KW01L.jpg; Digi-Key Part Number: 490-6501-1-ND; Quantity Available: 5276; @ qty: 0; Packaging: Cut Tape (CT); Series: GRM; Part Status: Active; Value: 10pF; Temperature Coefficient: U2J; Operating Temperature: -55°C ~ 125°C; Features: -; Ratings: -; Applications: General Purpose; Mounting Type: Surface Mount, MLCC; Package / Case: 1206 (3216 Metric); Size / Dimension: 0.126" L x 0.063" W (3.20mm x 1.60mm); Height - Seated (Max): -; Thickness (Max): 0.039" (1.00mm); Lead Spacing: -; Lead Style: -
footprint SMD-1206C
pins: 1, 2